# EAGLE library part INA188 (library ICs)
Precision, Zero-Drift, Rail-to-Rail Out, High-Voltage Instrumentation Amplifier
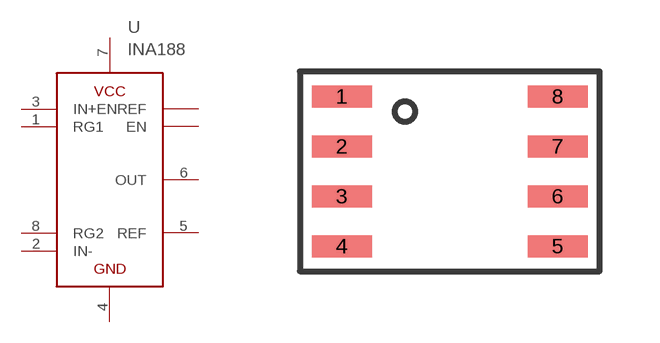
[diagram p208: symbol with the pads of SO8; footprint SO8]

Designator prefix U

## INA188IDR (DIGIKEY: 296-43151-1-ND; HEIGHT: 2; PRICE_PER: 3.47; VALUE: INA188)  [SO8]
1  RG1
2  IN-
3  IN+
4  GND
5  REF
6  OUT
7  VCC
8  RG2

## Footprint SO8 (pad centres in mm)
smd 1.5 x 0.55: 1 -2.7,1.875; 2 -2.7,0.625; 3 -2.7,-0.625; 4 -2.7,-1.875; 5 2.7,-1.875; 6 2.7,-0.625; 7 2.7,0.625; 8 2.7,1.875